# EAGLE library part TPS79850 (library texas)
LDO REGULATOR 50mA, 3-50V, MICROPOWER
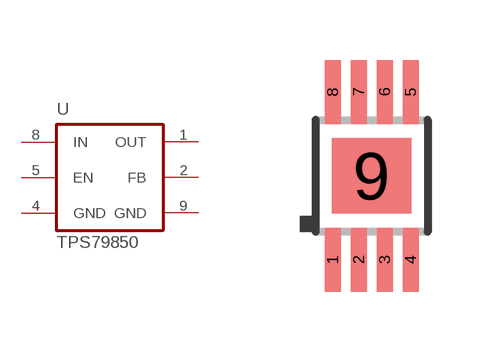
[diagram p69: symbol with the pads of MSOP08-POWERPAD; footprint MSOP08-POWERPAD]

Designator prefix U

## TPS79850  [MSOP08-POWERPAD]
1  OUT  pas
2  FB  pas
4  GND  pwr
5  EN  in
8  IN  in
9  GND  pwr

## Footprint MSOP08-POWERPAD (pad centres in mm)
MSOP 8 - PowerPAD pitch 0.65 mm, DGN package Texas Instruments
smd 0.4 x 1.6: 1 -0.975,-2.1; 2 -0.325,-2.1; 3 0.325,-2.1; 4 0.975,-2.1; 5 0.975,2.1; 6 0.325,2.1; 7 -0.325,2.1; 8 -0.975,2.1
smd 1.98 x 1.88: 9 0,0